# EAGLE library part MCP601-I_P (library MCP601-I_P)
Single low power op-amp,MCP601-I/P DIP8 Microchip MCP601-I/P Op Amp, 2.8MHz CMOS, Rail to Rail, 3 V, 5 V, 8-Pin PDIP Source: Datasheet <http://ww1.microchip.com/downloads/en/DeviceDoc/21314g.pdf>
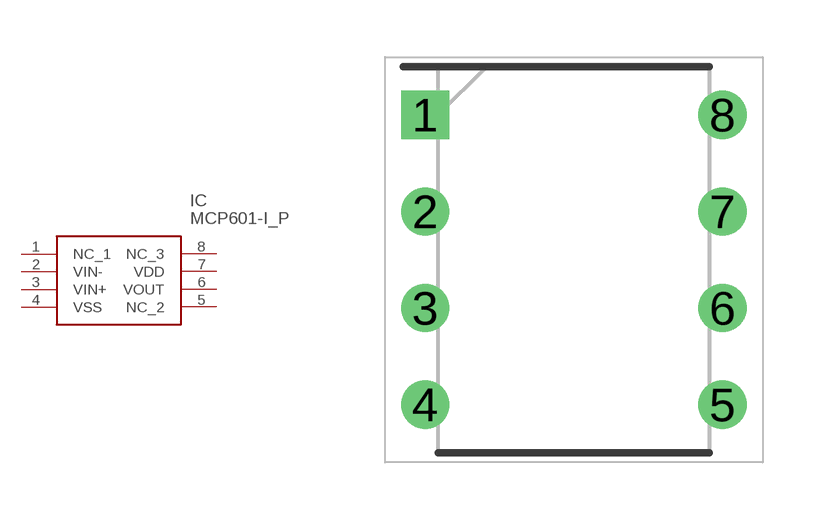
[diagram p0: symbol with the pads of DIP781W56P254L950H533Q8N; footprint DIP781W56P254L950H533Q8N]

Designator prefix IC

## MCP601-I_P (Description: Single low power op-amp,MCP601-I/P DIP8 Microchip MCP601-I/P Op Amp, 2.8MHz CMOS, Rail to Rail, 3 V, 5 V, 8-Pin PDIP; Height: 5.334mm; Manufacturer_Name: Microchip; Manufacturer_Part_Number: MCP601-I/P; Mouser_Part_Number: 579-MCP601IP; Mouser_Price-Stock: https://www.mouser.co.uk/ProductDetail/Microchip-Technology/MCP601-I-P?qs=caJrvSDHBA%2FmOLB5k64cCA%3D%3D)  [DIP781W56P254L950H533Q8N]
1  NC_1
2  VIN-  in
3  VIN+  in
4  VSS  pwr
5  NC_2
6  VOUT  out
7  VDD  pwr
8  NC_3

## Footprint DIP781W56P254L950H533Q8N (pad centres in mm)
8-Lead Plastic Dual In-Line (P) - 300 mil Body [PDIP]
drill 0.759 pad 1.159 square: 1 -3.905,3.81
drill 0.759 pad 1.159: 2 -3.905,1.27; 3 -3.905,-1.27; 4 -3.905,-3.81; 5 3.905,-3.81; 6 3.905,-1.27; 7 3.905,1.27; 8 3.905,3.81